# Altium schematic symbol library SWARMUS_LIB.SchLib: 181 symbols (part 4 of 4)
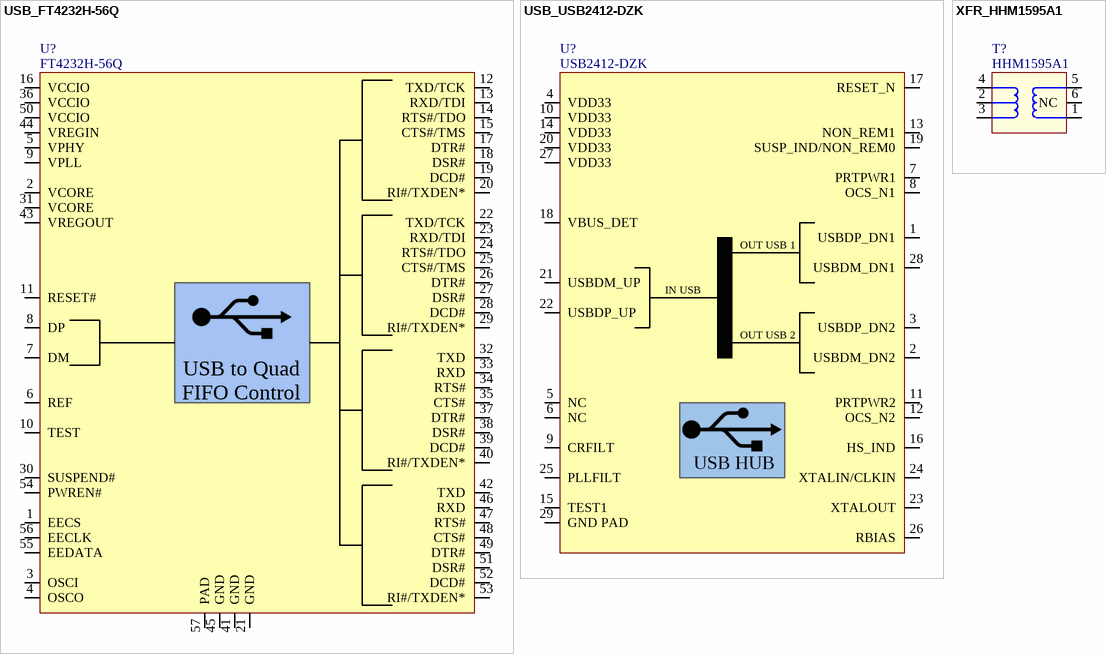
[diagram p9: symbols USB_FT4232H-56Q to XFR_HHM1595A1]

## USB_FT4232H-56Q
designator U?, comment FT4232H-56Q
USB Bridge, USB to UART,FIFO USB 2.0 FIFO, JTAG Quad channel Interface 56-VQFN (8x8); Manufacturer #1: FTDI, Future Technology Devices International Ltd; Voltage Rating: CORE 1.62-1.98V, VCCIO 2.97-3.63V; Current Rating: REGULATOR 150mA; Power Max: 550mW; GRAMS Lib Spec: 2.7; Magnetic Material: Unknown; Polarized: Yes; Value: *; Tolerance: *; HelpURL: https://www.ftdichip.com/Support/Documents/DataSheets/ICs/DS_FT4232H.pdf; VerifiedBy: Philippe Arsenault - 2021/03/16; Temperature: -40°C ~ 85°C; Package: 56-VQFN; Manufacturer #2: *; Assembly Type: SMD; Part Number #2: *; Part Number #1: FT4232H-56Q; CreatedBy/Date: Hubert Dube -  22/02/2021; Supplier 1: Digi-Key; Supplier Part Number 1: 768-1378-1-ND
footprint USB_FT4232H-56Q (VQFN 56 pin)
pins: 1 EECS, 2 VCORE, 3 OSCI, 4 OSCO, 5 VPHY, 6 REF, 7 DM, 8 DP, 9 VPLL, 10 TEST, 11 RESET#, 12 TXD/TCK, 13 RXD/TDI, 14 RTS#/TDO, 15 CTS#/TMS, 16 VCCIO, 17 DTR#, 18 DSR#, 19 DCD#, 20 RI#/TXDEN*, 21 GND, 22 TXD/TCK, 23 RXD/TDI, 24 RTS#/TDO, 25 CTS#/TMS, 26 DTR#, 27 DSR#, 28 DCD#, 29 RI#/TXDEN*, 30 SUSPEND#, 31 VCORE, 32 TXD, 33 RXD, 34 RTS#, 35 CTS#, 36 VCCIO, 37 DTR#, 38 DSR#, 39 DCD#, 40 RI#/TXDEN*, 41 GND, 42 TXD, 43 VREGOUT, 44 VREGIN, 45 GND, 46 RXD, 47 RTS#, 48 CTS#, 49 DTR#, 50 VCCIO, 51 DSR#, 52 DCD#, 53 RI#/TXDEN*, 54 PWREN#, 55 EEDATA, 56 EECLK, 57 PAD
text: / USB to Quad / FIFO Control

## USB_USB2412-DZK
designator U?, comment USB2412-DZK
USB Hub Controller USB 2.0 USB Interface 28-QFN; Manufacturer #1: Microchip Technology; Part Number #1: 638-1114-ND; Value: 2-PORTS; Voltage Rating: 3V ~ 3.6V; GRAMS Lib Spec: 2.7; Magnetic Material: Unknown; Polarized: Yes; Tolerance: *; Current Rating: *; Power Max: *; HelpURL: https://ww1.microchip.com/downloads/en/DeviceDoc/2412.pdf; VerifiedBy: Philippe Arsenault/2021-03-14; Temperature: 0°C ~ 70°C; Package: *; Manufacturer #2: *; Assembly Type: SMD; Part Number #2: *; CreatedBy/Date: Hubert Dube -  12/02/2021; Supplier 1: Digi-Key; Supplier Part Number 1: USB2412-DZK-CT-ND
footprint USB_USB2412-DZK (QFN 28(5x5))
pins: 1 USBDP_DN1, 2 USBDM_DN2, 3 USBDP_DN2, 4 VDD33, 5 NC, 6 NC, 7 PRTPWR1, 8 OCS_N1, 9 CRFILT, 10 VDD33, 11 PRTPWR2, 12 OCS_N2, 13 NON_REM1, 14 VDD33, 15 TEST1, 16 HS_IND, 17 RESET_N, 18 VBUS_DET, 19 SUSP_IND/NON_REM0, 20 VDD33, 21 USBDM_UP, 22 USBDP_UP, 23 XTALOUT, 24 XTALIN/CLKIN, 25 PLLFILT, 26 RBIAS, 27 VDD33, 28 USBDM_DN1, 29 GND PAD
text: OUT USB 1; IN USB; OUT USB 2; USB HUB

## XFR_HHM1595A1
designator T?, comment HHM1595A1
XFR - Imp Unbalaced/Balanced 50/100 3-8GHz  -SMD; Manufacturer #1: TDK; Value: 3GHz  ~ 8GHz; GRAMS Lib Spec: 2.8; Magnetic Material: Unknown; Polarized: Yes; Tolerance: *; Voltage Rating: *; Current Rating: *; Power Max: *; HelpURL: https://product.tdk.com/info/en/documents/data_sheet/rf_balun_hhm1595a1_en.pdf; CreatedBy/Date: Philippe Arsenault/2020-21-07; VerifiedBy: Louis-Daniel Gaulin / 03-10-2020; Temperature: -40°C ~ 85°C; Package: 0805; Manufacturer #2: *; Note: *; Assembly Type: MT; Part Number #2: *; Part Number #1: HHM1595A1; Supplier 1: Digi-Key; Supplier Part Number 1: 445-3387-1-ND
footprint XFR_HHM1595A1 (HHM1595A1)
pins: 1, 2 GND, 3, 4, 5, 6 NC